# Altium schematic symbol library SCH - LDO - TPS780180300DRVR.SCHLIB: 1 symbol
Pins are listed as number, name and electrical type; pins without a type are passive.

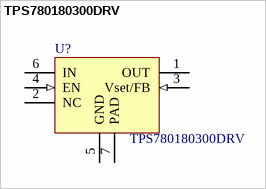
[diagram p0: symbol TPS780180300DRV]

## TPS780180300DRV
designator U?
footprint SON65P200X200X80-7N
pins: 1 OUT, 2 NC, 3 Vset/FB (in), 4 EN (in), 5 GND (power), 6 IN (power), 7 PAD